# EAGLE library part NC5 (library con-neutrik_xlr_2)
5 pin XLR Female plus Ground, A, B and D Series (and -B, -BAG variants) Horizontal and Vertical Metal faceplate makes no difference to size Source: www.neutrik.com/
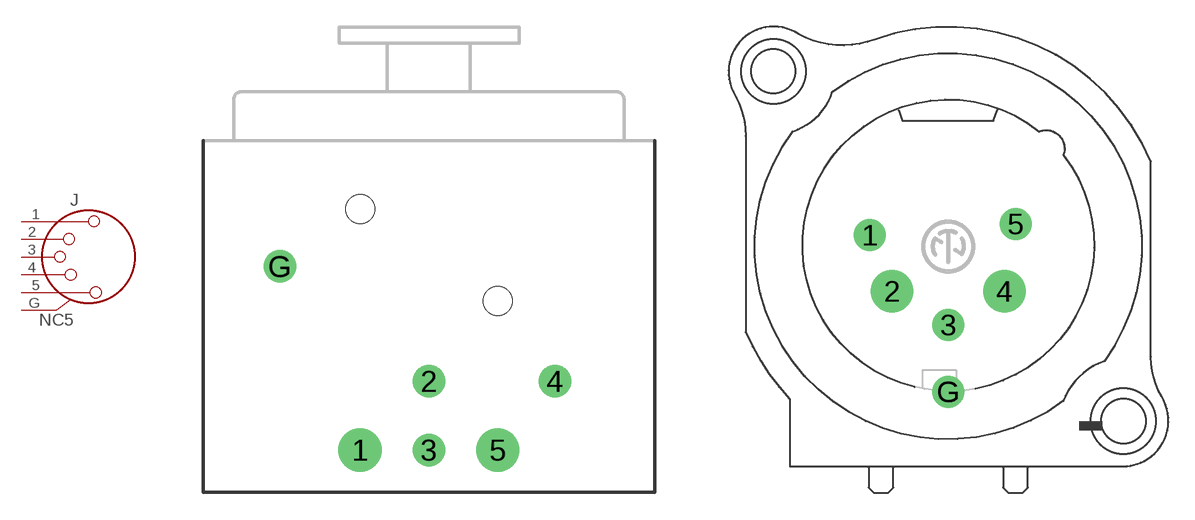
[diagram p1: symbol with the pads of NC5FH; footprints NC5FH, NC5MV]

Designator prefix J

## NC5FAH  [NC5FH]
1  1  pas
2  2  pas
3  3  pas
4  4  pas
5  5  pas
G  G  pas

## NC5MAV  [NC5MV]
Pads as for NC5FH

## NC5MAH  [NC5MH]
Pads as for NC5FH

## NC5FAV  [NC5FV]
Pads as for NC5FH

## NC5FBH  [NC5FH]
Pads as for NC5FH

## NC5FBH-B  [NC5FH]
Pads as for NC5FH

## NC5FBV-B  [NC5FV]
Pads as for NC5FH

## NC5FBV  [NC5FV]
Pads as for NC5FH

## NC5MBV  [NC5MV]
Pads as for NC5FH

## NC5MBV-B  [NC5MV]
Pads as for NC5FH

## NC5MBH  [NC5MH]
Pads as for NC5FH

## NC5MBH-B  [NC5MH]
Pads as for NC5FH

## NC5FDM3H  [NC5FDH]
1  1  pas
2  2  pas
3  3  pas
4  4  pas
5  5  pas
G  G  pas
G1  G  pas

## NC5FDM3H-BAG  [NC5FDH]
Pads as for NC5FDH

## NC5MDM3H  [NC5MDH]
Pads as for NC5FDH

## NC5MDM3H-BAG  [NC5MDH]
Pads as for NC5FDH

## Footprint NC5FH (pad centres in mm)
5 pin XLR Female plus Ground Horizontal A or B Series (and -B variant) Metal faceplate makes no difference to size
drill 1.6: 1 -3.81,-17.15; 5 3.81,-17.15
drill 1.2: 2 0,-13.34; 3 0,-17.15; 4 6.98,-13.34; G -8.25,-6.98
hole 1.6 at 3.81,-8.89
hole 1.6 at -3.81,-3.81

## Footprint NC5MV (pad centres in mm)
5 pin XLR Male plus Ground Vertical, A or B Series (and -B variant) Metal faceplate makes no difference to size
drill 1.2: 1 -4.445,0.635; 3 0,-4.445; 5 3.81,1.27; G 0,-8.225
drill 1.6: 2 -3.175,-2.54; 4 3.175,-2.54

## Footprint NC5MH (pad centres in mm)
5 pin XLR Male plus Ground Horizontal A or B Series (and -B variant) Metal faceplate makes no difference to size
drill 1.6: 1 6.98,-17.78; 5 -6.98,-17.78
drill 1.2: 2 3.81,-12.7; 3 0,-17.78; 4 -3.81,-12.7; G 0,-12.7
hole 1.6 at 3.81,-8.89
hole 1.6 at -3.81,-3.81

## Footprint NC5FV (pad centres in mm)
5 pin XLR Female plus Ground Vertical, A or B Series (and -B variant) Metal faceplate makes no difference to size
drill 1.2: 1 3.81,0.635; 2 3.175,-2.54; 3 0,-4.445; 4 -3.175,-2.54; 5 -3.81,1.27; G 8.255,-10.16

## Footprint NC5FDH (pad centres in mm)
5 pin XLR Female plus Ground Horizontal DL Series (and -BAG variant) Ground connects to Faceplate AND connector case Two Ground connections Metal faceplate colour makes no difference to size
drill 1.2: 1 -10.16,-25.4; 2 -5.08,-25.4; 3 0,-25.4; 4 5.08,-25.4; 5 10.16,-25.4
drill 2.1: G -5.08,-20.32; G1 5.08,-7.76
hole 3.2 at 0,-12.7

## Footprint NC5MDH (pad centres in mm)
5 pin XLR Male plus Ground Horizontal DL Series (and -BAG variant) Ground connects to Faceplate AND connector case Metal faceplate colour makes no difference to size
drill 1.2: 1 10.16,-25.4; 2 5.08,-25.4; 3 0,-25.4; 4 -5.08,-25.4; 5 -10.16,-25.4
drill 2.1: G -5.08,-20.32; G1 5.08,-7.76
hole 3.2 at 0,-12.7